# Altium footprint library TS3USB221RSER.PcbLib: 1 footprints
Each footprint in its own frame and in the unit in brackets; x right, y up, seen from the top. Pads: shape width x height; smd on the part's side, far side on the other; paste and mask are expansions set on the pad; w line width, h text height; cw(c..) or ccw(c..) is an arc to the next point about the centre after c.
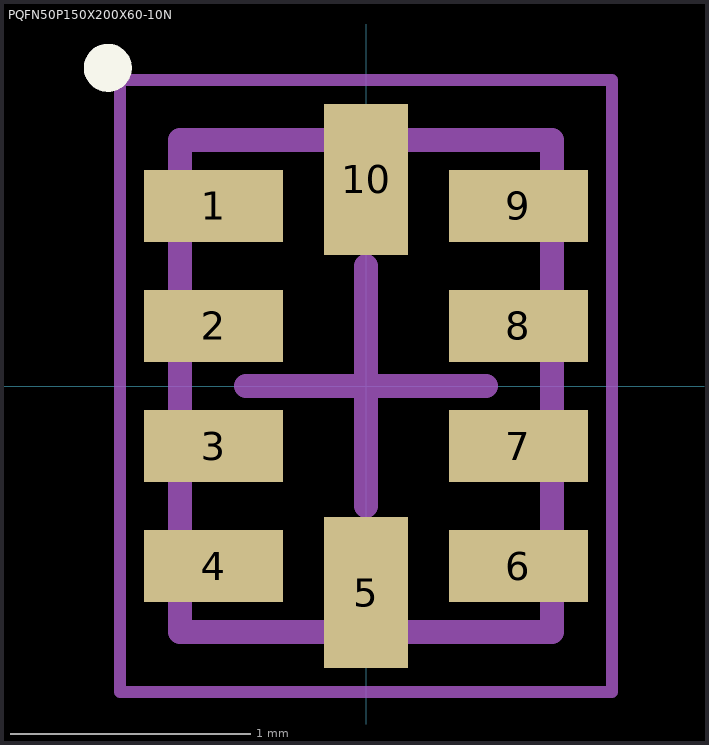
[diagram p0: the footprint, top view; thin cyan lines are the x and y axes]

## PQFN50P150X200X60-10N [mm] "PQFN, 10-Leads, Body 1.50x2.00mm, Pitch 0.50mm, IPC Medium Density"
height 0.6
pads (10):
  rect 0.58x0.3 smd: 1(-0.635,0.75) 2(-0.635,0.25) 3(-0.635,-0.25) 4(-0.635,-0.75) 6(0.635,-0.75) 7(0.635,-0.25) 8(0.635,0.25) 9(0.635,0.75)
  rect 0.35x0.63 smd: 5(0,-0.86) 10(0,0.86)
Top Overlay:
  circle w0.1: c-1.075,1.325 r0.05
Mechanical 13:
  lines w0.1: -0.775,-1.025 0.775,-1.025 0.775,1.025 -0.775,1.025 -0.775,-1.025
Mechanical 15:
  lines w0.05: -1.025,-1.275 1.025,-1.275 1.025,1.275 -1.025,1.275 -1.025,-1.275
  lines w0.1: -0.5,0 0.5,0 ; 0,-0.5 0,0.5
3D body: height 0.6, standoff 0.05, extent -0.775,-1.025 0.775,1.025